# EAGLE library part ADG613 (library 0SBLib)
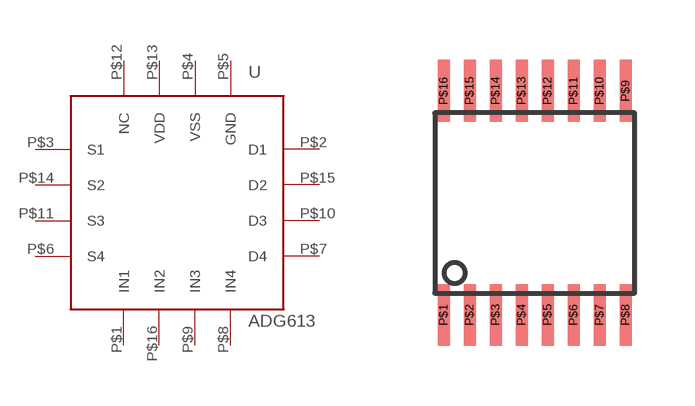
[diagram p20: symbol with the pads of TSSOP-16W; footprint TSSOP-16W]

Designator prefix -

## ADG613  [TSSOP-16W]
P$1  IN1
P$2  D1
P$3  S1
P$4  VSS
P$5  GND
P$6  S4
P$7  D4
P$8  IN4
P$9  IN3
P$10  D3
P$11  S3
P$12  NC
P$13  VDD
P$14  S2
P$15  D2
P$16  IN2

## Footprint TSSOP-16W (pad centres in mm)
smd 0.3 x 1.55: P$1 -2.275,-2.8; P$2 -1.625,-2.8; P$3 -0.975,-2.8; P$4 -0.325,-2.8; P$5 0.325,-2.8; P$6 0.975,-2.8; P$7 1.625,-2.8; P$8 2.275,-2.8; P$9 2.275,2.8; P$10 1.625,2.8; P$11 0.975,2.8; P$12 0.325,2.8; P$13 -0.325,2.8; P$14 -0.975,2.8; P$15 -1.625,2.8; P$16 -2.275,2.8